# EAGLE library part JST_6 (library kwoo)
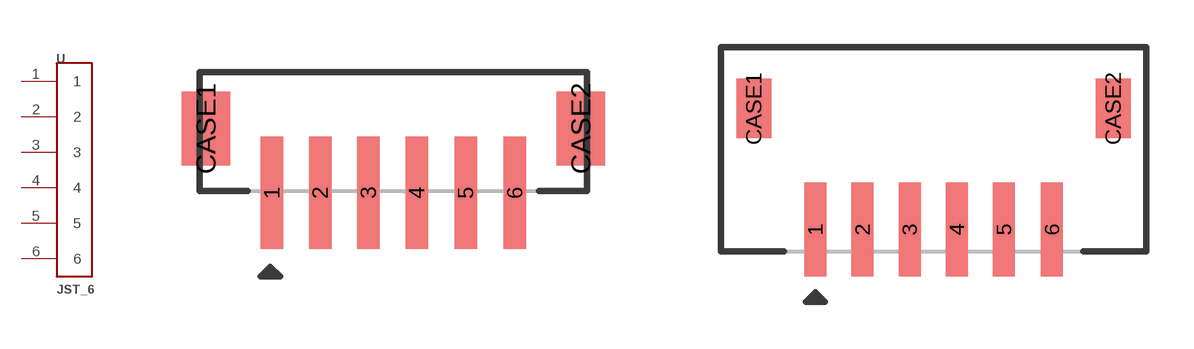
[diagram p47: symbol with the pads of JST_ZH_6; footprints JST_ZH_6, JST_ZH_RA_6]

Designator prefix -

## JST_6VERT  [JST_ZH_6]
1  1
2  2
3  3
4  4
5  5
6  6

## JST_6RA  [JST_ZH_RA_6]
Pads as for JST_ZH_6

## Footprint JST_ZH_6 (pad centres in mm)
smd 0.7 x 3.5: 1 -3.774,-2.508; 2 -2.274,-2.508; 3 -0.774,-2.508; 4 0.726,-2.508; 5 2.25,-2.508; 6 3.774,-2.508
smd 1.5 x 2.3: CASE1 -5.824,-0.508; CASE2 5.824,-0.508

## Footprint JST_ZH_RA_6 (pad centres in mm)
smd 0.7 x 3: 1 -3.762,-3.85; 2 -2.262,-3.85; 3 -0.762,-3.85; 4 0.738,-3.85; 5 2.238,-3.85; 6 3.762,-3.85
smd 1.1 x 1.9: CASE1 -5.712,0; CASE2 5.712,0